# EAGLE library part SC4501 (library BaseApp)
Digikey No:- __SC4501MSECT-ND__
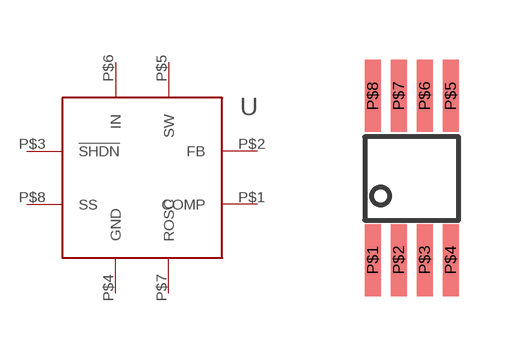
[diagram p26: symbol with the pads of MSOP-8L-EDP; footprint MSOP-8L-EDP]

Designator prefix -

## SC4501  [MSOP-8L-EDP]
P$1  COMP
P$2  FB
P$3  !SHDN
P$4  GND
P$5  SW
P$6  IN
P$7  ROSC
P$8  SS

## Footprint MSOP-8L-EDP (pad centres in mm)
smd 0.4 x 1.8: P$1 -1,-1.9; P$2 -0.35,-1.9; P$3 0.3,-1.9; P$4 0.95,-1.9; P$5 0.95,2.2; P$6 0.3,2.2; P$7 -0.35,2.2; P$8 -1,2.2